# Altium footprint library 74HC595PW-Q100,118.PcbLib: 3 footprints
Each footprint in its own frame and in the unit in brackets; x right, y up, seen from the top. Pads: shape width x height; smd on the part's side, far side on the other; paste and mask are expansions set on the pad; w line width, h text height; cw(c..) or ccw(c..) is an arc to the next point about the centre after c.
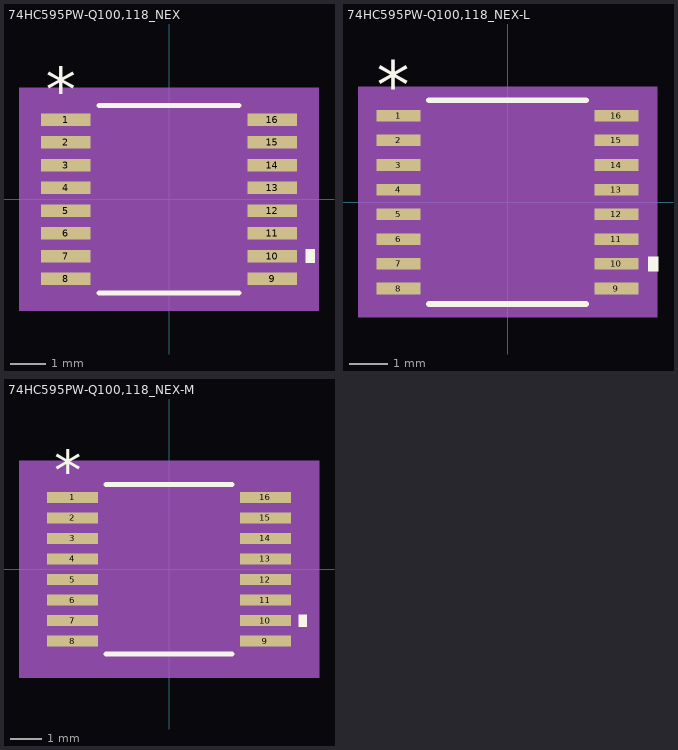
[diagram p0: the footprints below, top view; thin cyan lines are the x and y axes]

## 74HC595PW-Q100,118_NEX [mil]
pads (16):
  rect 55.42x14 smd paste+0 mask+0: 1(-116.21,89.57) 2(-116.21,63.98) 3(-116.21,38.39) 4(-116.21,12.8) 5(-116.21,-12.8) 6(-116.21,-38.39) 7(-116.21,-63.98) 8(-116.21,-89.57) 9(116.21,-89.57) 10(116.21,-63.98) 11(116.21,-38.39) 12(116.21,-12.8) 13(116.21,12.8) 14(116.21,38.39) 15(116.21,63.98) 16(116.21,89.57)
Top Overlay:
  region: 153.92,-56.48 163.92,-56.48 163.92,-71.48 153.92,-71.48
  lines w6: -78.92,-105.5 78.92,-105.5 ; -78.92,105.5 78.92,105.5
  text "*" at -138.71,98.57 h50
Mechanical 5:
  region: 168.92,-125.5 -168.92,-125.5 -168.92,125.5 168.92,125.5
Mechanical 13:
  lines w0: -12,100.5 ccw(c0,100.5) 12,100.5
  lines w1: -129.92,-95.57 -129.92,-83.57 -88.5,-83.57 -88.5,-95.57 -129.92,-95.57 ; -129.92,-69.98 -129.92,-57.98 -88.5,-57.98 -88.5,-69.98 -129.92,-69.98 ; -129.92,-44.39 -129.92,-32.39 -88.5,-32.39 -88.5,-44.39 -129.92,-44.39 ; -129.92,-18.8 -129.92,-6.8 -88.5,-6.8 -88.5,-18.8 -129.92,-18.8 ; -129.92,6.8 -129.92,18.8 -88.5,18.8 -88.5,6.8 -129.92,6.8 ; -129.92,32.39 -129.92,44.39 -88.5,44.39 -88.5,32.39 -129.92,32.39 ; -129.92,57.98 -129.92,69.98 -88.5,69.98 -88.5,57.98 -129.92,57.98 ; -129.92,83.57 -129.92,95.57 -88.5,95.57 -88.5,83.57 -129.92,83.57 ; -88.5,-100.5 88.5,-100.5 88.5,100.5 -88.5,100.5 -88.5,-100.5 ; 88.5,-95.57 88.5,-83.57 129.92,-83.57 129.92,-95.57 88.5,-95.57 ; 88.5,-69.98 88.5,-57.98 129.92,-57.98 129.92,-69.98 88.5,-69.98 ; 88.5,-44.39 88.5,-32.39 129.92,-32.39 129.92,-44.39 88.5,-44.39 ; 88.5,-18.8 88.5,-6.8 129.92,-6.8 129.92,-18.8 88.5,-18.8 ; 88.5,6.8 88.5,18.8 129.92,18.8 129.92,6.8 88.5,6.8 ; 88.5,32.39 88.5,44.39 129.92,44.39 129.92,32.39 88.5,32.39 ; 88.5,57.98 88.5,69.98 129.92,69.98 129.92,57.98 88.5,57.98 ; 88.5,83.57 88.5,95.57 129.92,95.57 129.92,83.57 88.5,83.57
  text "*" at -86,47.5 h50
Mechanical 15:
  region: -98.5,-106.57 -153.92,-106.57 -153.92,106.57 -98.5,106.57 -98.5,110.5 98.5,110.5 98.5,106.57 153.92,106.57 153.92,-106.57 98.5,-106.57 98.5,-110.5 -98.5,-110.5
  lines w6: -153.92,-106.57 -153.92,106.57 -98.5,106.57 -98.5,110.5 98.5,110.5 98.5,106.57 153.92,106.57 153.92,-106.57 98.5,-106.57 98.5,-110.5 -98.5,-110.5 -98.5,-106.57 -153.92,-106.57
3D body: height 10, standoff 0, extent 0,0 10,10

## 74HC595PW-Q100,118_NEX-L [mil]
pads (16):
  rect 46x12 smd paste+0 mask+0: 1(-112.92,89.57) 2(-112.92,63.98) 3(-112.92,38.39) 4(-112.92,12.8) 5(-112.92,-12.8) 6(-112.92,-38.39) 7(-112.92,-63.98) 8(-112.92,-89.57) 9(112.92,-89.57) 10(112.92,-63.98) 11(112.92,-38.39) 12(112.92,-12.8) 13(112.92,12.8) 14(112.92,38.39) 15(112.92,63.98) 16(112.92,89.57)
Top Overlay:
  region: 145.92,-56.48 155.92,-56.48 155.92,-71.48 145.92,-71.48
  lines w6: -81.38,-105.5 81.38,-105.5 ; -81.38,105.5 81.38,105.5
  text "*" at -135.42,96.57 h50
Mechanical 5:
  region: 154.92,-119.5 -154.92,-119.5 -154.92,119.5 154.92,119.5
Mechanical 13:
  lines w0: -12,100.5 ccw(c0,100.5) 12,100.5
  lines w1: -129.92,-95.57 -129.92,-83.57 -88.5,-83.57 -88.5,-95.57 -129.92,-95.57 ; -129.92,-69.98 -129.92,-57.98 -88.5,-57.98 -88.5,-69.98 -129.92,-69.98 ; -129.92,-44.39 -129.92,-32.39 -88.5,-32.39 -88.5,-44.39 -129.92,-44.39 ; -129.92,-18.8 -129.92,-6.8 -88.5,-6.8 -88.5,-18.8 -129.92,-18.8 ; -129.92,6.8 -129.92,18.8 -88.5,18.8 -88.5,6.8 -129.92,6.8 ; -129.92,32.39 -129.92,44.39 -88.5,44.39 -88.5,32.39 -129.92,32.39 ; -129.92,57.98 -129.92,69.98 -88.5,69.98 -88.5,57.98 -129.92,57.98 ; -129.92,83.57 -129.92,95.57 -88.5,95.57 -88.5,83.57 -129.92,83.57 ; -88.5,-100.5 88.5,-100.5 88.5,100.5 -88.5,100.5 -88.5,-100.5 ; 88.5,-95.57 88.5,-83.57 129.92,-83.57 129.92,-95.57 88.5,-95.57 ; 88.5,-69.98 88.5,-57.98 129.92,-57.98 129.92,-69.98 88.5,-69.98 ; 88.5,-44.39 88.5,-32.39 129.92,-32.39 129.92,-44.39 88.5,-44.39 ; 88.5,-18.8 88.5,-6.8 129.92,-6.8 129.92,-18.8 88.5,-18.8 ; 88.5,6.8 88.5,18.8 129.92,18.8 129.92,6.8 88.5,6.8 ; 88.5,32.39 88.5,44.39 129.92,44.39 129.92,32.39 88.5,32.39 ; 88.5,57.98 88.5,69.98 129.92,69.98 129.92,57.98 88.5,57.98 ; 88.5,83.57 88.5,95.57 129.92,95.57 129.92,83.57 88.5,83.57
  text "*" at -86,47.5 h50
Mechanical 15:
  region: -92.5,-99.57 -139.92,-99.57 -139.92,99.57 -92.5,99.57 -92.5,104.5 92.5,104.5 92.5,99.57 139.92,99.57 139.92,-99.57 92.5,-99.57 92.5,-104.5 -92.5,-104.5
  lines w6: -139.92,-99.57 -139.92,99.57 -92.5,99.57 -92.5,104.5 92.5,104.5 92.5,99.57 139.92,99.57 139.92,-99.57 92.5,-99.57 92.5,-104.5 -92.5,-104.5 -92.5,-99.57 -139.92,-99.57
3D body: height 10, standoff 0, extent 0,0 10,10

## 74HC595PW-Q100,118_NEX-M [mil]
pads (16):
  rect 63.42x14 smd paste+0 mask+0: 1(-120.21,89.57) 2(-120.21,63.98) 3(-120.21,38.39) 4(-120.21,12.8) 5(-120.21,-12.8) 6(-120.21,-38.39) 7(-120.21,-63.98) 8(-120.21,-89.57) 9(120.21,-89.57) 10(120.21,-63.98) 11(120.21,-38.39) 12(120.21,-12.8) 13(120.21,12.8) 14(120.21,38.39) 15(120.21,63.98) 16(120.21,89.57)
Top Overlay:
  region: 161.92,-56.48 171.92,-56.48 171.92,-71.48 161.92,-71.48
  lines w6: -78.92,-105.5 78.92,-105.5 ; -78.92,105.5 78.92,105.5
  text "*" at -142.71,98.57 h50
Mechanical 5:
  region: 186.92,-135.5 -186.92,-135.5 -186.92,135.5 186.92,135.5
Mechanical 13:
  lines w0: -12,100.5 ccw(c0,100.5) 12,100.5
  lines w1: -129.92,-95.57 -129.92,-83.57 -88.5,-83.57 -88.5,-95.57 -129.92,-95.57 ; -129.92,-69.98 -129.92,-57.98 -88.5,-57.98 -88.5,-69.98 -129.92,-69.98 ; -129.92,-44.39 -129.92,-32.39 -88.5,-32.39 -88.5,-44.39 -129.92,-44.39 ; -129.92,-18.8 -129.92,-6.8 -88.5,-6.8 -88.5,-18.8 -129.92,-18.8 ; -129.92,6.8 -129.92,18.8 -88.5,18.8 -88.5,6.8 -129.92,6.8 ; -129.92,32.39 -129.92,44.39 -88.5,44.39 -88.5,32.39 -129.92,32.39 ; -129.92,57.98 -129.92,69.98 -88.5,69.98 -88.5,57.98 -129.92,57.98 ; -129.92,83.57 -129.92,95.57 -88.5,95.57 -88.5,83.57 -129.92,83.57 ; -88.5,-100.5 88.5,-100.5 88.5,100.5 -88.5,100.5 -88.5,-100.5 ; 88.5,-95.57 88.5,-83.57 129.92,-83.57 129.92,-95.57 88.5,-95.57 ; 88.5,-69.98 88.5,-57.98 129.92,-57.98 129.92,-69.98 88.5,-69.98 ; 88.5,-44.39 88.5,-32.39 129.92,-32.39 129.92,-44.39 88.5,-44.39 ; 88.5,-18.8 88.5,-6.8 129.92,-6.8 129.92,-18.8 88.5,-18.8 ; 88.5,6.8 88.5,18.8 129.92,18.8 129.92,6.8 88.5,6.8 ; 88.5,32.39 88.5,44.39 129.92,44.39 129.92,32.39 88.5,32.39 ; 88.5,57.98 88.5,69.98 129.92,69.98 129.92,57.98 88.5,57.98 ; 88.5,83.57 88.5,95.57 129.92,95.57 129.92,83.57 88.5,83.57
  text "*" at -86,47.5 h50
Mechanical 15:
  region: -108.5,-116.57 -171.92,-116.57 -171.92,116.57 -108.5,116.57 -108.5,120.5 108.5,120.5 108.5,116.57 171.92,116.57 171.92,-116.57 108.5,-116.57 108.5,-120.5 -108.5,-120.5
  lines w6: -171.92,-116.57 -171.92,116.57 -108.5,116.57 -108.5,120.5 108.5,120.5 108.5,116.57 171.92,116.57 171.92,-116.57 108.5,-116.57 108.5,-120.5 -108.5,-120.5 -108.5,-116.57 -171.92,-116.57
3D body: height 10, standoff 0, extent 0,0 10,10